# Altium footprint library switch-omron.PCBLIB: 9 footprints
Each footprint in its own frame and in the unit in brackets; x right, y up, seen from the top. Pads: shape width x height; smd on the part's side, far side on the other; paste and mask are expansions set on the pad; w line width, h text height; cw(c..) or ccw(c..) is an arc to the next point about the centre after c.
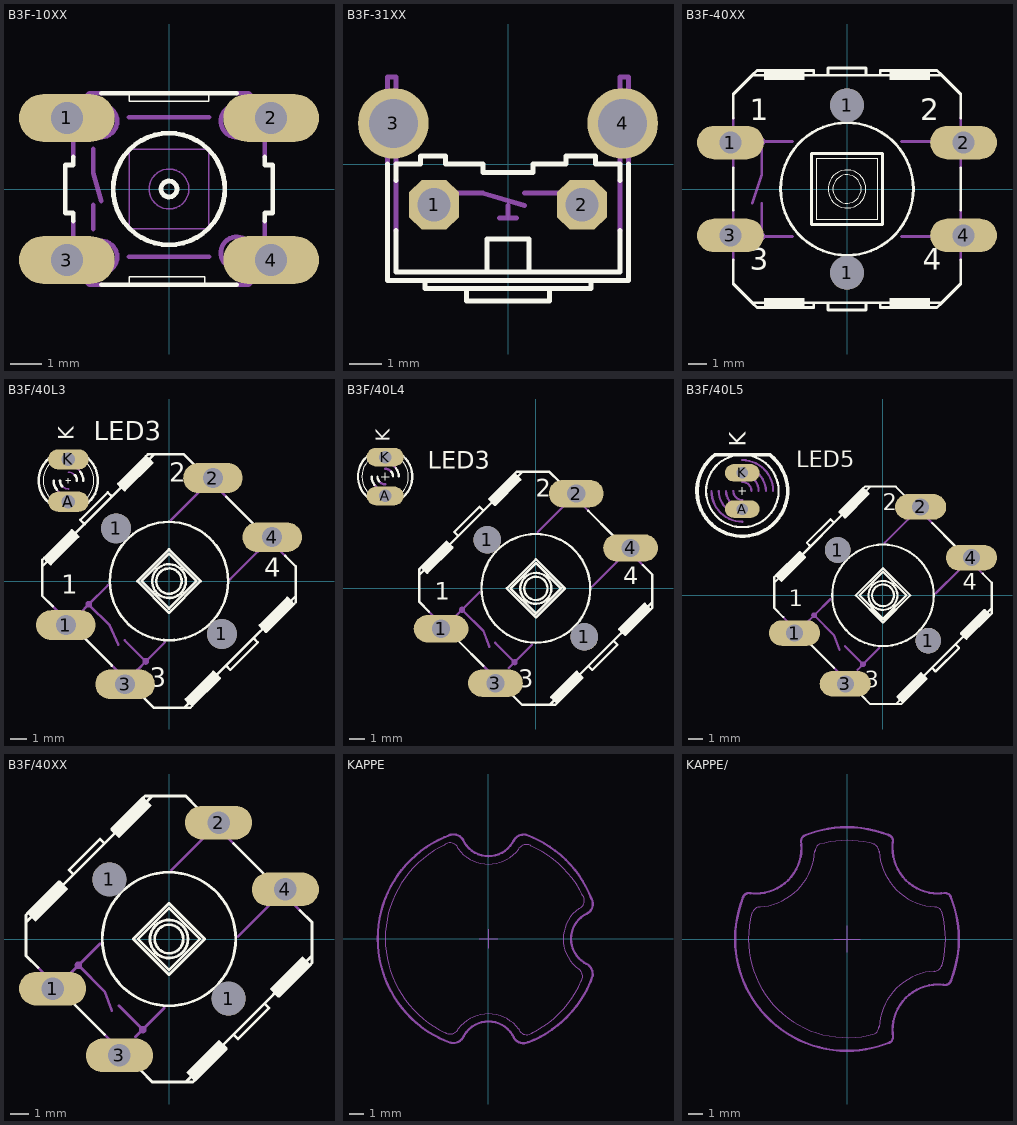
[diagram p0: the footprints below, top view; thin cyan lines are the x and y axes]

## B3F-10XX [mil]
pads (4):
  oval 120x60 hole 40: 1(-128,89) 2(128,89) 3(-128,-89) 4(128,-89)
Top Overlay:
  circle w6: c0,0 r70
  circle w6: c0,0 r10
  lines w2: -50,-120 -50,-110 45,-110 45,-120 ; -50,120 -50,110 50,110 50,120
  lines w6: -120,-40 -120,-30 -130,-30 -130,30 -120,30 -120,40 ; -85,-120 -50,-120 45,-120 85,-120 ; -85,120 -50,120 50,120 85,120 ; 120,-40 120,-30 130,-30 130,30 120,30 120,40
Mechanical 16:
  circle w6: c-85,-85 r20
  circle w6: c85,-80 r20
  circle w6: c85,85 r20
  circle w6: c-85,85 r20
  circle w2: c0,0 r25
  lines w2: -50,-50 -50,50 50,50 50,-50 -50,-50
  lines w6: -120,-40 -120,-100 -100,-120 -85,-120 ; -120,40 -120,100 -100,120 -85,120 ; -95,-50 -95,-20 ; -95,50 -95,20 -85,-15 ; -50,-85 50,-85 ; -50,90 50,90 ; 85,-120 100,-120 120,-100 120,-40 ; 85,120 100,120 120,100 120,40
  text "1" at -170,65 h77.5
  text "2" at 140,60 h77.5
  text "3" at -180,-110 h77.5
  text "4" at 140,-110 h77.5

## B3F-31XX [mil]
pads (4):
  oct 60x60 hole 40: 1(-89,-49) 2(89,-49)
  round 85 hole 59: 3(-138,49) 4(138,49)
Top Overlay:
  lines w6: -145,0 -145,-140 100,-140 ; -135,-80 -135,-130 -25,-130 ; -135,-20 -135,0 -105,0 -105,10 -75,10 -75,0 -30,0 -30,-10 30,-10 30,0 70,0 70,10 105,10 105,0 135,0 135,-20 ; -100,-140 -100,-150 -50,-150 ; 135,-80 135,-130 25,-130 ; 145,0 145,-140 100,-140 ; -50,-150 -50,-165 50,-165 50,-150 ; -50,-150 50,-150 ; -25,-130 -25,-90 25,-90 25,-130 ; -25,-130 25,-130 ; 50,-150 100,-150 100,-140
Mechanical 16:
  lines w6: -145,0 -145,105 -135,105 -135,0 ; -135,-80 -135,-20 ; -65,-35 -30,-35 20,-50 ; -10,-65 0,-65 ; 0,-50 0,-65 ; 10,-65 0,-65 ; 20,-35 65,-35 ; 135,-80 135,-20 ; 135,0 135,105 145,105 145,0

## B3F-40XX [mil]
pads (6):
  oval 141x70.5 hole 47: 1(-246,98) 2(246,98) 3(-246,-98) 4(246,-98)
  round 71 hole 71: 1(0,-177) 1(0,177)
Top Overlay:
  circle w6: c0,0 r140
  circle w2: c0,0 r40
  circle w2: c0,0 r30
  rectangle: 90,230 175,250
  rectangle: -175,230 -90,250
  rectangle: 90,-250 175,-230
  rectangle: -175,-250 -90,-230
  lines w2: -65,-65 65,-65 65,65 -65,65 -65,-65
  lines w6: -240,-150 -240,-200 -200,-240 ; -240,-45 -240,45 ; -240,150 -240,200 -200,240 ; 240,-150 240,-200 200,-240 ; 240,-45 240,45 ; 240,150 240,200 200,240 ; -200,-240 -70,-240 ; -200,-240 -190,-250 -70,-250 -70,-240 ; -200,240 -70,240 ; -200,240 -190,250 -70,250 -70,240 ; -70,-240 -40,-240 ; -70,240 -40,240 ; -40,-240 -40,-255 40,-255 40,-240 ; -40,-240 40,-240 ; -40,240 -40,255 40,255 40,240 ; -40,240 40,240 ; 40,-240 70,-240 ; 40,240 70,240 ; 70,-240 70,-250 190,-250 200,-240 ; 70,-240 200,-240 ; 70,240 200,240 ; 70,240 70,250 190,250 200,240 ; -75,-75 75,-75 75,75 -75,75 -75,-75
  text "1" at -205,130 h77.5
  text "2" at 155,130 h77.5
  text "3" at -205,-185 h77.5
  text "4" at 160,-185 h77.5
Mechanical 16:
  circle w6: c-180,100 r5
  circle w6: c-180,-100 r5
  rectangle: 240,-115 260,-80
  rectangle: 240,80 260,115
  rectangle: -260,80 -240,115
  rectangle: -260,-115 -240,-80
  lines w6: -240,-150 -240,-45 ; -240,45 -240,150 ; -200,-100 -180,-100 ; -200,-30 -180,30 -180,100 ; -200,100 -180,100 ; -180,-30 -180,-100 ; -115,-100 -180,-100 ; -115,100 -180,100 ; 115,-100 200,-100 ; 115,100 200,100 ; 240,-150 240,-45 ; 240,45 240,150

## B3F/40L3 [mil]
pads (8):
  oval 141x70.5 hole 47: 1(-244,-104) 2(104,244) 3(-104,-244) 4(244,104)
  round 71 hole 71: 1(-125,125) 1(125,-125)
  oval 96x48 hole 32: A(-238,188) K(-238,288)
Top Overlay:
  circle w6: c0,0 r140
  circle w6: c0,0 r40
  circle w6: c0,0 r30
  lines w2: -277.69,193 cw(c-238,238) -277.69,283 ; -244,238 -232,238 ; -238,232 -238,244 ; -198.32,193 ccw(c-238,238) -198.32,283
  lines w6: -277.19,180 cw(c-238,238) -277.19,296 ; -275,-60 -300,-35 -300,35 ; -273,238 ccw(c-238,238) -265.81,216.75 ; -258,238 ccw(c-238,238) -253.2,225 ; -230,115 -290,55 -290,50 ; -222.8,251 cw(c-238,238) -218,238 ; -220,105 -280,45 -280,40 ; -210.19,259.25 cw(c-238,238) -203,238 ; -200,-135 -135,-200 ; -198.81,180 ccw(c-238,238) -198.81,296 ; -115,230 -55,290 -55,295 ; -105,220 -45,280 -45,285 ; -60,-275 -35,-300 35,-300 ; 60,275 35,300 -35,300 ; 105,-220 45,-280 45,-285 ; 115,-230 55,-290 55,-295 ; 135,200 200,135 ; 200,-135 210,-145 145,-210 135,-200 ; 220,-105 280,-45 280,-40 ; 230,-115 290,-55 290,-50 ; 275,60 300,35 300,-35 ; -300,35 -200,135 ; -300,35 -300,50 -295,55 ; -295,55 -230,120 -225,115 ; -295,55 -290,50 ; -290,50 -225,115 ; -290,50 -285,45 ; -285,45 -220,110 ; -285,45 -280,40 ; -280,40 -215,105 -220,110 ; -225,115 -220,110 ; -200,135 -210,145 -145,210 -135,200 ; -200,135 -135,200 ; -135,200 -35,300 ; -115,225 -120,230 -55,295 ; -115,225 -50,290 ; -115,225 -110,220 ; -110,220 -45,285 ; -110,220 -105,215 -40,280 -45,285 ; -55,295 -50,290 ; -55,295 -50,300 -35,300 ; -50,290 -45,285 ; 35,-300 135,-200 ; 35,-300 50,-300 55,-295 ; 40,-280 105,-215 110,-220 ; 40,-280 45,-285 ; 40,-280 55,-295 ; 45,-285 110,-220 ; 45,-285 50,-290 ; 50,-290 115,-225 ; 50,-290 55,-295 ; 55,-295 120,-230 115,-225 ; 110,-220 115,-225 ; 135,-200 300,-35 ; 220,-110 215,-105 280,-40 ; 220,-110 285,-45 ; 220,-110 225,-115 ; 225,-115 290,-50 ; 225,-115 230,-120 295,-55 ; 280,-40 285,-45 ; 285,-45 290,-50 ; 290,-50 295,-55 ; 295,-55 300,-50 300,-35 ; -75,0 0,-75 75,0 0,75 -75,0 ; -65,0 0,-65 65,0 0,65 -65,0
  text "K" at -214,333 h62
  text "1" at -255,-45 h77.5
  text "2" at 0,220 h77.5
  text "3" at -45,-265 h77.5
  text "4" at 225,-5 h77.5
  text "LED3" at -178,318 h77.5
Mechanical 16:
  circle w6: c-55,-190 r5
  circle w6: c-190,-55 r5
  lines w4: -277.69,193 ccw(c-238,238) -198.32,193 ; -277.69,283 cw(c-238,238) -198.32,283 ; -277.19,180 ccw(c-238,238) -198.81,180 ; -277.19,296 cw(c-238,238) -198.81,296 ; -269,300 -207,300 ; -265.81,216.75 ccw(c-238,238) -238,203 ; -253.2,225 ccw(c-238,238) -238,218 ; -238,258 cw(c-238,238) -222.8,251 ; -238,273 cw(c-238,238) -210.19,259.25
  lines w6: -275,-60 -250,-85 ; -250,-90 -230,-110 -225,-110 ; -235,-115 -255,-95 -255,-90 ; -210,-75 -190,-55 ; -200,-135 -225,-110 ; -145,-10 -190,-55 ; -135,-200 -110,-225 ; -120,-150 -140,-105 -190,-55 ; -110,-230 -90,-250 -85,-250 ; -105,-140 -55,-190 ; -95,-255 -115,-235 -115,-230 ; -75,-210 -55,-190 ; -60,-275 -85,-250 ; -10,-145 -55,-190 ; 5,145 70,210 ; 60,275 85,250 ; 95,255 115,235 115,230 ; 110,230 90,250 85,250 ; 135,200 110,225 ; 145,5 210,70 ; 200,135 250,85 ; 235,115 255,95 255,90 ; 250,90 230,110 225,110 ; 275,60 250,85 ; -255,-90 -250,-85 ; -255,-90 -230,-115 ; -255,-90 -260,-95 -235,-120 -230,-115 ; -250,-85 -225,-110 ; -230,-115 -225,-110 ; -115,-230 -110,-225 ; -115,-230 -90,-255 ; -115,-230 -120,-235 -95,-260 -90,-255 ; -110,-225 -85,-250 ; -90,-255 -85,-250 ; 85,250 90,255 ; 85,250 110,225 ; 90,255 95,260 120,235 115,230 ; 90,255 115,230 ; 110,225 115,230 ; 225,110 250,85 ; 225,110 230,115 ; 230,115 235,120 260,95 255,90 ; 230,115 255,90 ; 250,85 255,90

## B3F/40L4 [mil]
pads (8):
  oval 141x70.5 hole 47: 1(-244,-104) 2(104,244) 3(-104,-244) 4(244,104)
  round 71 hole 71: 1(-125,125) 1(125,-125)
  oval 96x48 hole 32: A(-388,238) K(-388,338)
Top Overlay:
  circle w6: c0,0 r140
  circle w6: c0,0 r40
  circle w6: c0,0 r30
  lines w2: -427.69,243 cw(c-388,288) -427.69,333 ; -398,288 -378,288 ; -388,278 -388,298 ; -348.32,243 ccw(c-388,288) -348.32,333
  lines w6: -427.19,230 cw(c-388,288) -427.19,346 ; -423,288 ccw(c-388,288) -415.81,266.75 ; -408,288 ccw(c-388,288) -403.2,275 ; -372.8,301 cw(c-388,288) -368,288 ; -360.19,309.25 cw(c-388,288) -353,288 ; -348.81,230 ccw(c-388,288) -348.81,346 ; -275,-60 -300,-35 -300,35 ; -230,115 -290,55 -290,50 ; -220,105 -280,45 -280,40 ; -200,-135 -135,-200 ; -115,230 -55,290 -55,295 ; -105,220 -45,280 -45,285 ; -60,-275 -35,-300 35,-300 ; 60,275 35,300 -35,300 ; 105,-220 45,-280 45,-285 ; 115,-230 55,-290 55,-295 ; 135,200 200,135 ; 200,-135 210,-145 145,-210 135,-200 ; 220,-105 280,-45 280,-40 ; 230,-115 290,-55 290,-50 ; 275,60 300,35 300,-35 ; -300,35 -200,135 ; -300,35 -300,50 -295,55 ; -295,55 -230,120 -225,115 ; -295,55 -290,50 ; -290,50 -225,115 ; -290,50 -285,45 ; -285,45 -220,110 ; -285,45 -280,40 ; -280,40 -215,105 -220,110 ; -225,115 -220,110 ; -200,135 -210,145 -145,210 -135,200 ; -200,135 -135,200 ; -135,200 -35,300 ; -115,225 -120,230 -55,295 ; -115,225 -50,290 ; -115,225 -110,220 ; -110,220 -45,285 ; -110,220 -105,215 -40,280 -45,285 ; -55,295 -50,290 ; -55,295 -50,300 -35,300 ; -50,290 -45,285 ; 35,-300 135,-200 ; 35,-300 50,-300 55,-295 ; 40,-280 105,-215 110,-220 ; 40,-280 45,-285 ; 40,-280 55,-295 ; 45,-285 110,-220 ; 45,-285 50,-290 ; 50,-290 115,-225 ; 50,-290 55,-295 ; 55,-295 120,-230 115,-225 ; 110,-220 115,-225 ; 135,-200 300,-35 ; 220,-110 215,-105 280,-40 ; 220,-110 285,-45 ; 220,-110 225,-115 ; 225,-115 290,-50 ; 225,-115 230,-120 295,-55 ; 280,-40 285,-45 ; 285,-45 290,-50 ; 290,-50 295,-55 ; 295,-55 300,-50 300,-35 ; -75,0 0,-75 75,0 0,75 -75,0 ; -65,0 0,-65 65,0 0,65 -65,0
  text "1" at -260,-45 h77.5
  text "2" at 0,220 h77.5
  text "3" at -45,-270 h77.5
  text "4" at 225,-5 h77.5
  text "K" at -364,378 h62
  text "LED3" at -278,293 h77.5
Mechanical 16:
  circle w6: c-55,-190 r5
  circle w6: c-190,-55 r5
  lines w2: -427.69,243 ccw(c-388,288) -348.32,243 ; -427.69,333 cw(c-388,288) -348.32,333
  lines w6: -427.19,230 ccw(c-388,288) -348.81,230 ; -427.19,346 cw(c-388,288) -348.81,346 ; -417,351 -359,351 ; -415.81,266.75 ccw(c-388,288) -388,253 ; -403.2,275 ccw(c-388,288) -388,268 ; -388,308 cw(c-388,288) -372.8,301 ; -388,323 cw(c-388,288) -360.19,309.25 ; -275,-60 -250,-85 ; -250,-90 -230,-110 -225,-110 ; -235,-115 -255,-95 -255,-90 ; -205,-70 -190,-55 ; -200,-135 -225,-110 ; -145,-10 -190,-55 ; -135,-200 -110,-225 ; -120,-150 -135,-110 -190,-55 ; -110,-230 -90,-250 -85,-250 ; -105,-140 -55,-190 ; -95,-255 -115,-235 -115,-230 ; -70,-205 -55,-190 ; -60,-275 -85,-250 ; -10,-145 -55,-190 ; 5,145 70,210 ; 60,275 85,250 ; 95,255 115,235 115,230 ; 110,230 90,250 85,250 ; 135,200 110,225 ; 145,5 210,70 ; 200,135 250,85 ; 235,115 255,95 255,90 ; 250,90 230,110 225,110 ; 275,60 250,85 ; -255,-90 -250,-85 ; -255,-90 -230,-115 ; -255,-90 -260,-95 -235,-120 -230,-115 ; -250,-85 -225,-110 ; -230,-115 -225,-110 ; -115,-230 -110,-225 ; -115,-230 -90,-255 ; -115,-230 -120,-235 -95,-260 -90,-255 ; -110,-225 -85,-250 ; -90,-255 -85,-250 ; 85,250 90,255 ; 85,250 110,225 ; 90,255 95,260 120,235 115,230 ; 90,255 115,230 ; 110,225 115,230 ; 225,110 250,85 ; 225,110 230,115 ; 230,115 235,120 260,95 255,90 ; 230,115 255,90 ; 250,85 255,90

## B3F/40L5 [mil]
pads (8):
  oval 141x70.5 hole 47: 1(-244,-104) 2(104,244) 3(-104,-244) 4(244,104)
  round 71 hole 71: 1(-125,125) 1(125,-125)
  oval 96x48 hole 32: A(-388,238) K(-388,338)
Top Overlay:
  circle w6: c0,0 r140
  circle w6: c0,0 r40
  circle w6: c0,0 r30
  circle w6: c-388,288 r100
  lines w2: -398,288 -378,288 ; -388,278 -388,298
  lines w6: -275,-60 -300,-35 -300,35 ; -230,115 -290,55 -290,50 ; -220,105 -280,45 -280,40 ; -200,-135 -135,-200 ; -115,230 -55,290 -55,295 ; -105,220 -45,280 -45,285 ; -60,-275 -35,-300 35,-300 ; 60,275 35,300 -35,300 ; 105,-220 45,-280 45,-285 ; 115,-230 55,-290 55,-295 ; 135,200 200,135 ; 200,-135 210,-145 145,-210 135,-200 ; 220,-105 280,-45 280,-40 ; 230,-115 290,-55 290,-50 ; 275,60 300,35 300,-35 ; -300,35 -200,135 ; -300,35 -300,50 -295,55 ; -295,55 -230,120 -225,115 ; -295,55 -290,50 ; -290,50 -225,115 ; -290,50 -285,45 ; -285,45 -220,110 ; -285,45 -280,40 ; -280,40 -215,105 -220,110 ; -225,115 -220,110 ; -200,135 -210,145 -145,210 -135,200 ; -200,135 -135,200 ; -135,200 -35,300 ; -115,225 -120,230 -55,295 ; -115,225 -50,290 ; -115,225 -110,220 ; -110,220 -45,285 ; -110,220 -105,215 -40,280 -45,285 ; -55,295 -50,290 ; -55,295 -50,300 -35,300 ; -50,290 -45,285 ; 35,-300 135,-200 ; 35,-300 50,-300 55,-295 ; 40,-280 105,-215 110,-220 ; 40,-280 45,-285 ; 40,-280 55,-295 ; 45,-285 110,-220 ; 45,-285 50,-290 ; 50,-290 115,-225 ; 50,-290 55,-295 ; 55,-295 120,-230 115,-225 ; 110,-220 115,-225 ; 135,-200 300,-35 ; 220,-110 215,-105 280,-40 ; 220,-110 285,-45 ; 220,-110 225,-115 ; 225,-115 290,-50 ; 225,-115 230,-120 295,-55 ; 280,-40 285,-45 ; 285,-45 290,-50 ; 290,-50 295,-55 ; 295,-55 300,-50 300,-35 ; -75,0 0,-75 75,0 0,75 -75,0 ; -65,0 0,-65 65,0 0,65 -65,0
  lines w10: -463,388 -313,388 cw(c-388,288) -463,388
  text "K" at -363,410 h77.5
  text "1" at -260,-45 h77.5
  text "2" at 0,220 h77.5
  text "3" at -50,-270 h77.5
  text "4" at 220,0 h77.5
  text "LED5" at -239,338 h77.5
Mechanical 16:
  circle w6: c-55,-190 r5
  circle w6: c-190,-55 r5
  lines w6: -473,288 ccw(c-388,288) -388,203 ; -453,288 ccw(c-388,288) -388,223 ; -433,288 ccw(c-388,288) -388,243 ; -413,288 ccw(c-388,288) -388,263 ; -388,313 cw(c-388,288) -363,288 ; -388,333 cw(c-388,288) -343,288 ; -388,353 cw(c-388,288) -323,288 ; -388,373 cw(c-388,288) -303,288 ; -275,-60 -250,-85 ; -250,-90 -230,-110 -225,-110 ; -235,-115 -255,-95 -255,-90 ; -205,-70 -190,-55 ; -200,-135 -225,-110 ; -145,-10 -190,-55 ; -135,-200 -110,-225 ; -120,-150 -135,-110 -190,-55 ; -110,-230 -90,-250 -85,-250 ; -105,-140 -55,-190 ; -95,-255 -115,-235 -115,-230 ; -70,-205 -55,-190 ; -60,-275 -85,-250 ; -10,-145 -55,-190 ; 5,145 70,210 ; 60,275 85,250 ; 95,255 115,235 115,230 ; 110,230 90,250 85,250 ; 135,200 110,225 ; 145,5 210,70 ; 200,135 250,85 ; 235,115 255,95 255,90 ; 250,90 230,110 225,110 ; 275,60 250,85 ; -255,-90 -250,-85 ; -255,-90 -230,-115 ; -255,-90 -260,-95 -235,-120 -230,-115 ; -250,-85 -225,-110 ; -230,-115 -225,-110 ; -115,-230 -110,-225 ; -115,-230 -90,-255 ; -115,-230 -120,-235 -95,-260 -90,-255 ; -110,-225 -85,-250 ; -90,-255 -85,-250 ; 85,250 90,255 ; 85,250 110,225 ; 90,255 95,260 120,235 115,230 ; 90,255 115,230 ; 110,225 115,230 ; 225,110 250,85 ; 225,110 230,115 ; 230,115 235,120 260,95 255,90 ; 230,115 255,90 ; 250,85 255,90

## B3F/40XX [mil]
pads (6):
  oval 141x70.5 hole 47: 1(-244,-104) 2(104,244) 3(-104,-244) 4(244,104)
  round 71 hole 71: 1(-125,125) 1(125,-125)
Top Overlay:
  circle w6: c0,0 r140
  circle w6: c0,0 r40
  circle w6: c0,0 r30
  lines w6: -275,-60 -300,-35 -300,35 ; -230,115 -290,55 -290,50 ; -220,105 -280,45 -280,40 ; -200,-135 -135,-200 ; -115,230 -55,290 -55,295 ; -105,220 -45,280 -45,285 ; -60,-275 -35,-300 35,-300 ; 60,275 35,300 -35,300 ; 105,-220 45,-280 45,-285 ; 115,-230 55,-290 55,-295 ; 135,200 200,135 ; 200,-135 210,-145 145,-210 135,-200 ; 220,-105 280,-45 280,-40 ; 230,-115 290,-55 290,-50 ; 275,60 300,35 300,-35 ; -300,35 -200,135 ; -300,35 -300,50 -295,55 ; -295,55 -230,120 -225,115 ; -295,55 -290,50 ; -290,50 -225,115 ; -290,50 -285,45 ; -285,45 -220,110 ; -285,45 -280,40 ; -280,40 -215,105 -220,110 ; -225,115 -220,110 ; -200,135 -210,145 -145,210 -135,200 ; -200,135 -135,200 ; -135,200 -35,300 ; -115,225 -120,230 -55,295 ; -115,225 -50,290 ; -115,225 -110,220 ; -110,220 -45,285 ; -110,220 -105,215 -40,280 -45,285 ; -55,295 -50,290 ; -55,295 -50,300 -35,300 ; -50,290 -45,285 ; 35,-300 135,-200 ; 35,-300 50,-300 55,-295 ; 40,-280 105,-215 110,-220 ; 40,-280 45,-285 ; 40,-280 55,-295 ; 45,-285 110,-220 ; 45,-285 50,-290 ; 50,-290 115,-225 ; 50,-290 55,-295 ; 55,-295 120,-230 115,-225 ; 110,-220 115,-225 ; 135,-200 300,-35 ; 220,-110 215,-105 280,-40 ; 220,-110 285,-45 ; 220,-110 225,-115 ; 225,-115 290,-50 ; 225,-115 230,-120 295,-55 ; 280,-40 285,-45 ; 285,-45 290,-50 ; 290,-50 295,-55 ; 295,-55 300,-50 300,-35 ; -75,0 0,-75 75,0 0,75 -75,0 ; -65,0 0,-65 65,0 0,65 -65,0
Mechanical 16:
  circle w6: c-55,-190 r5
  circle w6: c-190,-55 r5
  lines w6: -275,-60 -250,-85 ; -250,-90 -230,-110 -225,-110 ; -235,-115 -255,-95 -255,-90 ; -205,-70 -190,-55 ; -200,-135 -225,-110 ; -145,-10 -190,-55 ; -135,-200 -110,-225 ; -120,-150 -135,-110 -190,-55 ; -110,-230 -90,-250 -85,-250 ; -105,-140 -55,-190 ; -95,-255 -115,-235 -115,-230 ; -70,-205 -55,-190 ; -60,-275 -85,-250 ; -10,-145 -55,-190 ; 5,145 70,210 ; 60,275 85,250 ; 95,255 115,235 115,230 ; 110,230 90,250 85,250 ; 135,200 110,225 ; 145,5 210,70 ; 200,135 250,85 ; 235,115 255,95 255,90 ; 250,90 230,110 225,110 ; 275,60 250,85 ; -255,-90 -250,-85 ; -255,-90 -230,-115 ; -255,-90 -260,-95 -235,-120 -230,-115 ; -250,-85 -225,-110 ; -230,-115 -225,-110 ; -115,-230 -110,-225 ; -115,-230 -90,-255 ; -115,-230 -120,-235 -95,-260 -90,-255 ; -110,-225 -85,-250 ; -90,-255 -85,-250 ; 85,250 90,255 ; 85,250 110,225 ; 90,255 95,260 120,235 115,230 ; 90,255 115,230 ; 110,225 115,230 ; 225,110 250,85 ; 225,110 230,115 ; 230,115 235,120 260,95 255,90 ; 230,115 255,90 ; 250,85 255,90

## KAPPE [mil]
Mechanical 16:
  lines w2: -118.15,248.95 cw(c-102,231.99) -79.99,240 ; -115.55,-249.08 ccw(c-102,-228) -80,-240 cw(c0,-300) 0,-200 cw(c0,-300) 80.64,-240.86 ; -115.53,250.83 ccw(c2,0) -275,0 ccw(c0,0) -115.24,-249.69 ; -80.64,239.86 ccw(c0,299) 0,199 ccw(c0,299) 80,239 ; -25,0 25,0 ; 0,-25 0,25 ; 79,238 cw(c100.99,226) 114.55,247.07 ; 80,-240 ccw(c102,-232) 118.14,-248.95 ; 111.36,247.75 cw(c4,-5) 251,115 ; 115,-251 ccw(c-5,-4) 247.75,-111.36 ; 238,-79 cw(c226,-100.99) 247.07,-114.55 ; 239,-80 cw(c299,0) 199,0 cw(c299,0) 239.86,80.64 ; 240,80 ccw(c232,102) 248.95,118.14
  lines w6: -104.89,275.53 cw(c-93,249) -67,262 ; -101.72,276.91 ccw(c0,0) -295,0 ccw(c0,0) -99.55,-277.7 ; -100,-277 ccw(c-94,-247) -66.15,-259.66 ; -68.1,-263.57 cw(c0,-295) 0,-220 cw(c0,-295) 68.1,-263.57 ; -68.1,263.57 ccw(c0,295) 0,220 ccw(c0,295) 68.1,263.57 ; 66.15,259.66 cw(c94,247) 100,277 ; 67,-262 ccw(c93,-249) 104.89,-275.53 ; 98.19,277.5 cw(c0,-0.01) 275,105 ; 105,-276 ccw(c-0.01,-1) 277.5,-99.19 ; 259.66,-66.15 cw(c247,-94) 277,-100 ; 262,67 ccw(c249,93) 275.53,104.89 ; 263.57,-68.1 cw(c295,0) 220,0 cw(c295,0) 263.57,68.1

## KAPPE/ [mil]
Mechanical 16:
  lines w2: -250.64,69.14 ccw(c-0.01,0.01) -260,0 ccw(c0,0) 72.16,-249.79 ; -250.26,68.63 cw(c-229.99,63) -229,84.01 ; -230.87,84.7 ccw(c-240.01,240) -130,130 ccw(c-239.99,240) -84.61,232.6 ; -84.29,231.04 cw(c-65.01,232) -72,250 ; -73.67,249.35 cw(c-0.02,0) 0,260 cw(c0,-0.02) 73.04,249.53 ; -35,0 35,0 ; 0,-35 0,35 ; 69.63,250.26 cw(c64,229.99) 85.01,229 ; 72,-250 ccw(c65,-232.01) 84.28,-231.04 ; 84.61,-232.6 cw(c239.99,-240) 130,-130 cw(c239.99,-240.01) 230.87,-84.71 ; 84.7,230.87 ccw(c240,240.01) 130,130 ccw(c240,239.99) 232.6,84.61 ; 229,-85 ccw(c229.99,-64) 250.25,-69.63 ; 231.04,84.29 cw(c232,65.01) 250,72 ; 249.35,73.67 cw(c0,0.02) 260,0 cw(c-0.02,0) 249.53,-73.04
  lines w6: -274.87,108.5 cw(c-258,104) -254,121 ; -273.9,109.56 ccw(c0,0) -295,0 ccw(c0,0) 0,-295 ccw(c0.02,0.01) 112.8,-272.59 ; -255.52,121.01 ccw(c-239.98,240) -240,120 ccw(c-240,240) -120,240 ccw(c-239.98,240.04) -121.2,256.97 ; -121.26,255.08 cw(c-103,257) -112,273 ; -112.8,272.59 cw(c-0.02,-0.01) 0,295 cw(c0,0) 109.56,273.9 ; 108.5,274.87 cw(c104,258) 121,254 ; 112,-274 ccw(c103,-258) 121.26,-256.08 ; 121.01,255.52 ccw(c240,239.98) 120,240 ccw(c240,240) 240,120 ccw(c240.04,239.98) 256.97,121.2 ; 121.2,-256.97 cw(c239.98,-240.04) 120,-240 cw(c240,-240) 240,-120 cw(c239.98,-240) 255.52,-121.01 ; 254,-121 ccw(c258,-104) 274.87,-108.5 ; 256.08,121.26 cw(c258,103) 274,112 ; 272.59,112.8 cw(c-0.01,0.02) 295,0 cw(c0,0) 273.9,-109.56